# EAGLE library part TPS54232 (library tps54232)
TPS54232 2-A, 28-V, 1-MHz, Step-Down DC-DC Converter With Eco-Mode
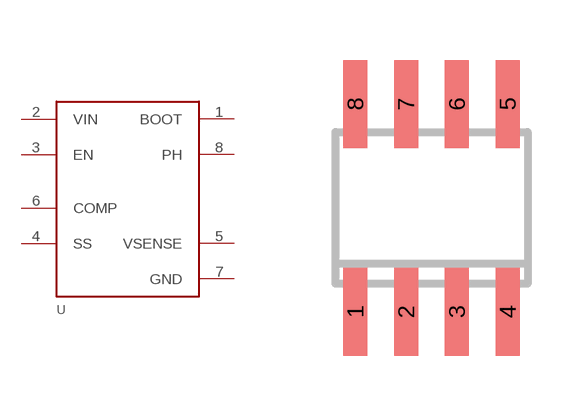
[diagram p0: symbol with the pads of SO-08; footprint SO-08]

Designator prefix -

## TPS54232  [SO-08]
1  BOOT
2  VIN
3  EN
4  SS
5  VSENSE
6  COMP
7  GND
8  PH

## Footprint SO-08 (pad centres in mm)
Small Outline Narrow Plastic Gull Wing 150-mil body, package type SN
smd 0.6 x 2.2: 1 -1.905,-2.6; 2 -0.635,-2.6; 3 0.635,-2.6; 4 1.905,-2.6; 5 1.905,2.6; 6 0.635,2.6; 7 -0.635,2.6; 8 -1.905,2.6